# Altium footprint library Murata.PcbLib: 2 footprints
Each footprint in its own frame and in the unit in brackets; x right, y up, seen from the top. Pads: shape width x height; smd on the part's side, far side on the other; paste and mask are expansions set on the pad; w line width, h text height; cw(c..) or ccw(c..) is an arc to the next point about the centre after c.
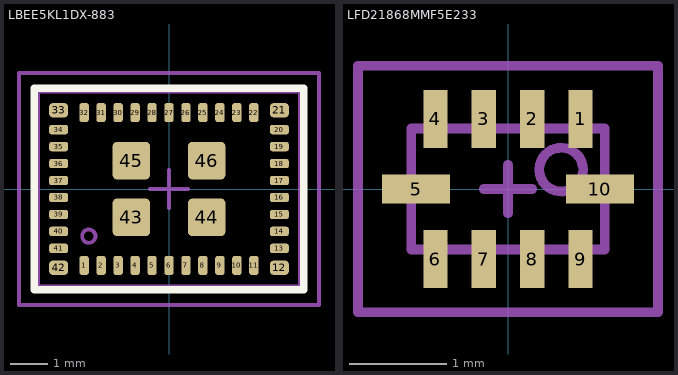
[diagram p0: the footprints below, top view; thin cyan lines are the x and y axes]

## LBEE5KL1DX-883 [mm] "W-LAN+Bluetooth Combo Module"
height 1.1
pads (46):
  rrect50% 0.25x0.5 smd: 1(-2.25,-2.025) 2(-1.8,-2.025) 3(-1.35,-2.025) 4(-0.9,-2.025) 5(-0.45,-2.025) 6(0,-2.025) 7(0.45,-2.025) 8(0.9,-2.025) 9(1.35,-2.025) 10(1.8,-2.025) 11(2.25,-2.025) 22(2.25,2.025) 23(1.8,2.025) 24(1.35,2.025) 25(0.9,2.025) 26(0.45,2.025) 27(0,2.025) 28(-0.45,2.025) 29(-0.9,2.025) 30(-1.35,2.025) 31(-1.8,2.025) 32(-2.25,2.025)
  rrect50% 0.5x0.375 smd: 12(2.925,-2.087) 21(2.925,2.087) 33(-2.925,2.087) 42(-2.925,-2.087)
  rrect50% 0.5x0.25 smd: 13(2.925,-1.575) 14(2.925,-1.125) 15(2.925,-0.675) 16(2.925,-0.225) 17(2.925,0.225) 18(2.925,0.675) 19(2.925,1.125) 20(2.925,1.575) 34(-2.925,1.575) 35(-2.925,1.125) 36(-2.925,0.675) 37(-2.925,0.225) 38(-2.925,-0.225) 39(-2.925,-0.675) 40(-2.925,-1.125) 41(-2.925,-1.575)
  rrect25% 1x1 smd: 43(-1,-0.75) 44(1,-0.75) 45(-1,0.75) 46(1,0.75)
Top Overlay:
  lines w0.2: -3.575,-2.675 3.575,-2.675 3.575,2.675 -3.575,2.675 -3.575,-2.675
3D Top:
  circle w0.1: c-2.125,-1.25 r0.177
  lines w0.1: -3.475,-2.575 -3.475,2.575 3.475,2.575 3.475,-2.575 -3.475,-2.575
Courtyard Top:
  lines w0.1: -0.5,0 0.5,0 ; 0,-0.5 0,0.5 ; -3.975,-3.075 -3.975,3.075 3.975,3.075 3.975,-3.075 -3.975,-3.075
3D body: height 1.15, standoff 1.1, extent -2.798,-1.899 -2.4,-1.5
3D body: height 1.1, standoff 0, extent -3.475,-2.575 3.475,2.575

## LFD21868MMF5E233 [mm]
pads (10):
  rect 0.25x0.6 smd: 1(0.75,0.725) 2(0.25,0.725) 3(-0.25,0.725) 4(-0.75,0.725) 6(-0.75,-0.725) 7(-0.25,-0.725) 8(0.25,-0.725) 9(0.75,-0.725)
  rect 0.7x0.3 smd: 5(-0.95,0) 10(0.95,0)
Assembly Bottom:
  circle w0.1: c0.55,0.2 r0.226
  lines w0.1: -1,-0.625 1,-0.625 1,0.625 -1,0.625 -1,-0.625
Courtyard Top:
  lines w0.1: -0.25,0 0.25,0 ; 0,-0.25 0,0.25 ; -1.55,-1.275 1.55,-1.275 1.55,1.275 -1.55,1.275 -1.55,-1.275
3D body: height 0.7, standoff 0, extent -1,-0.625 1.7,0.625
3D body: height 0.7, standoff 0, extent -1,-0.625 1,0.625
3D body: height 0.7, standoff 0, extent -2.9,-0.7 -1.9,0.25
3D body: height 0.7, standoff 0, extent -2.65,-0.883 -1.165,1.006
3D body: height 0.7, standoff 0, extent -1.005,-0.63 1.005,0.63
3D body: height 0.7, standoff 0, extent -1.005,-0.63 1.005,0.63
3D body: height 0.7, standoff 0, extent -3.15,-0.75 -1.8,0.4
3D body: height 0.7, standoff 0, extent -1,-0.625 1,0.625
3D body: height 0.75, standoff 0.5, extent 0.3,-0.125 0.7,0.125